# Altium footprint library Connector_IDC.PcbLib: 182 footprints (part 4 of 12)
Each footprint in its own frame and in the unit in brackets; x right, y up, seen from the top. Pads: shape width x height; smd on the part's side, far side on the other; paste and mask are expansions set on the pad; w line width, h text height; cw(c..) or ccw(c..) is an arc to the next point about the centre after c.
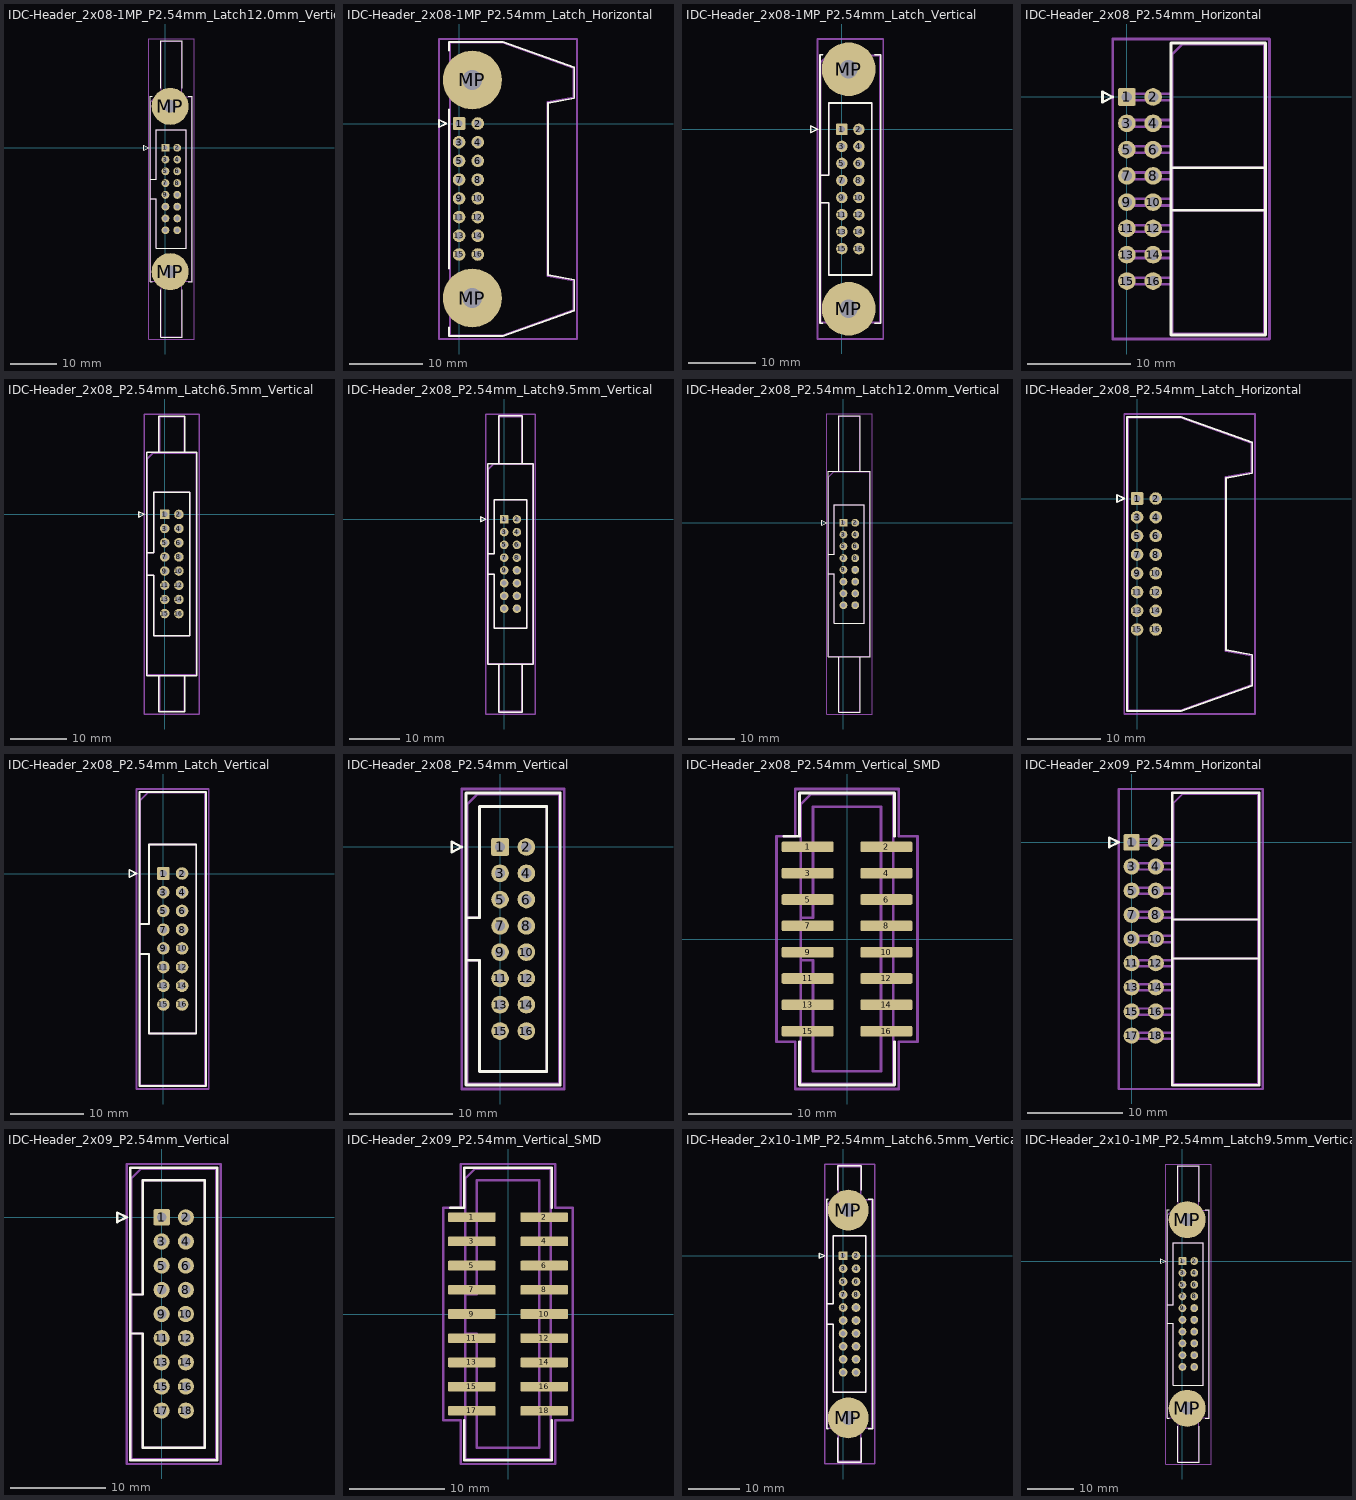
[diagram p3: the footprints below, top view; thin cyan lines are the x and y axes]

## IDC-Header_2x08-1MP_P2.54mm_Latch12.0mm_Vertical [mm]
pads (18):
  rrect15% 1.7x1.7 hole 1: 1(0,0)
  round 1.7 hole 1: 2(2.54,0) 3(0,-2.54) 4(2.54,-2.54) 5(0,-5.08) 6(2.54,-5.08) 7(0,-7.62) 8(2.54,-7.62) 9(0,-10.16) 10(2.54,-10.16) 11(0,-12.7) 12(2.54,-12.7) 13(0,-15.24) 14(2.54,-15.24) 15(0,-17.78) 16(2.54,-17.78)
  round 8 hole 2.69: MP(1.02,-26.72) MP(1.02,8.94)
F.SilkS:
  lines w0.254: -3.24,-10.94 -1.93,-10.94 -1.93,-21.7 4.47,-21.7 4.47,3.92 -1.93,3.92 -1.93,-6.84 -3.24,-6.84 ; -2.87,-28.86 -3.24,-28.86 -3.24,11.08 -2.87,11.08 ; -1.04,-30.61 -1.04,-40.86 3.58,-40.86 3.58,-30.61 ; -1.04,12.83 -1.04,23.08 3.58,23.08 3.58,12.83 ; 4.91,-28.86 5.78,-28.86 5.78,11.08 4.91,11.08 ; -4.63,-0.5 -3.63,0 -4.63,0.5 -4.63,-0.5
Top Assembly:
  lines w0.254: -3.13,-10.94 -1.93,-10.94 -1.93,-21.7 4.47,-21.7 4.47,3.92 -1.93,3.92 -1.93,-6.84 -3.13,-6.84 ; -0.93,-28.75 -0.93,-40.75 3.47,-40.75 3.47,-28.75 ; -0.93,10.97 -0.93,22.97 3.47,22.97 3.47,10.97 ; -3.13,-28.75 5.67,-28.75 5.67,10.97 -2.13,10.97 -3.13,9.97 -3.13,-28.75
  text "'.Designator'" at 2.11,-12.937 h1
Top Courtyard:
  lines w0.254: -3.63,-41.25 6.17,-41.25 6.17,23.47 -3.63,23.47 -3.63,-41.25
Top Designator:
  text ".Designator" at -6.848,-9.398 h1.52

## IDC-Header_2x08-1MP_P2.54mm_Latch_Horizontal [mm]
pads (18):
  rrect15% 1.7x1.7 hole 1: 1(0,0)
  round 1.7 hole 1: 2(2.54,0) 3(0,-2.54) 4(2.54,-2.54) 5(0,-5.08) 6(2.54,-5.08) 7(0,-7.62) 8(2.54,-7.62) 9(0,-10.16) 10(2.54,-10.16) 11(0,-12.7) 12(2.54,-12.7) 13(0,-15.24) 14(2.54,-15.24) 15(0,-17.78) 16(2.54,-17.78)
  round 8 hole 2.69: MP(1.8,-23.685) MP(1.8,5.905)
F.SilkS:
  lines w0.254: -1.35,-27.685 -1.35,-28.86 5.98,-28.86 15.64,-25.39 15.64,-21.2 12.08,-20.57 12.08,2.79 15.64,3.42 15.64,7.61 5.98,11.08 -1.35,11.08 -1.35,9.905 ; -1.35,-19.685 -1.35,1.905 ; -2.74,-0.5 -1.74,0 -2.74,0.5 -2.74,-0.5
Top Assembly:
  lines w0.254: -1.24,-28.75 5.87,-28.75 15.53,-25.28 15.53,-21.31 11.97,-20.68 11.97,2.9 15.53,3.53 15.53,7.5 5.87,10.97 -1.24,10.97 -1.24,-28.75
  text "'.Designator'" at 7.985,-12.937 h1
Top Courtyard:
  lines w0.254: -2.7,-29.25 16.03,-29.25 16.03,11.47 -2.7,11.47 -2.7,-29.25
Top Designator:
  text ".Designator" at -0.973,-9.398 h1.52

## IDC-Header_2x08-1MP_P2.54mm_Latch_Vertical [mm]
pads (18):
  rrect15% 1.7x1.7 hole 1: 1(0,0)
  round 1.7 hole 1: 2(2.54,0) 3(0,-2.54) 4(2.54,-2.54) 5(0,-5.08) 6(2.54,-5.08) 7(0,-7.62) 8(2.54,-7.62) 9(0,-10.16) 10(2.54,-10.16) 11(0,-12.7) 12(2.54,-12.7) 13(0,-15.24) 14(2.54,-15.24) 15(0,-17.78) 16(2.54,-17.78)
  round 8 hole 2.69: MP(1.02,-26.72) MP(1.02,8.94)
F.SilkS:
  lines w0.254: -3.24,-10.94 -1.93,-10.94 -1.93,-21.7 4.47,-21.7 4.47,3.92 -1.93,3.92 -1.93,-6.84 -3.24,-6.84 ; -2.87,-28.86 -3.24,-28.86 -3.24,11.08 -2.87,11.08 ; 4.91,-28.86 5.78,-28.86 5.78,11.08 4.91,11.08 ; -4.63,-0.5 -3.63,0 -4.63,0.5 -4.63,-0.5
Top Assembly:
  lines w0.254: -3.13,-10.94 -1.93,-10.94 -1.93,-21.7 4.47,-21.7 4.47,3.92 -1.93,3.92 -1.93,-6.84 -3.13,-6.84 ; -3.13,-28.75 5.67,-28.75 5.67,10.97 -2.13,10.97 -3.13,9.97 -3.13,-28.75
  text "'.Designator'" at 2.11,-12.937 h1
Top Courtyard:
  lines w0.254: -3.63,-31.22 6.17,-31.22 6.17,13.44 -3.63,13.44 -3.63,-31.22
Top Designator:
  text ".Designator" at -6.848,-9.398 h1.52

## IDC-Header_2x08_P2.54mm_Horizontal [mm]
pads (16):
  rrect15% 1.7x1.7 hole 1: 1(0,0)
  round 1.7 hole 1: 2(2.54,0) 3(0,-2.54) 4(2.54,-2.54) 5(0,-5.08) 6(2.54,-5.08) 7(0,-7.62) 8(2.54,-7.62) 9(0,-10.16) 10(2.54,-10.16) 11(0,-12.7) 12(2.54,-12.7) 13(0,-15.24) 14(2.54,-15.24) 15(0,-17.78) 16(2.54,-17.78)
F.SilkS:
  lines w0.254: 4.27,-10.94 13.39,-10.94 ; 4.27,-6.84 13.39,-6.84 ; -2.35,-0.5 -1.35,0 -2.35,0.5 -2.35,-0.5 ; 4.27,-22.99 13.39,-22.99 13.39,5.21 4.27,5.21 4.27,-22.99
Top Assembly:
  lines w0.254: 4.38,-18.1 -0.32,-18.1 -0.32,-17.46 4.38,-17.46 ; 4.38,-15.56 -0.32,-15.56 -0.32,-14.92 4.38,-14.92 ; 4.38,-13.02 -0.32,-13.02 -0.32,-12.38 4.38,-12.38 ; 4.38,-10.94 13.28,-10.94 ; 4.38,-10.48 -0.32,-10.48 -0.32,-9.84 4.38,-9.84 ; 4.38,-7.94 -0.32,-7.94 -0.32,-7.3 4.38,-7.3 ; 4.38,-6.84 13.28,-6.84 ; 4.38,-5.4 -0.32,-5.4 -0.32,-4.76 4.38,-4.76 ; 4.38,-2.86 -0.32,-2.86 -0.32,-2.22 4.38,-2.22 ; 4.38,-0.32 -0.32,-0.32 -0.32,0.32 4.38,0.32 ; 4.38,-22.88 13.28,-22.88 13.28,5.1 5.38,5.1 4.38,4.1 4.38,-22.88
  text "'.Designator'" at 9.67,-12.937 h1
Top Courtyard:
  lines w0.254: -1.35,-23.38 13.78,-23.38 13.78,5.6 -1.35,5.6 -1.35,-23.38
Top Designator:
  text ".Designator" at -1.903,-9.398 h1.52

## IDC-Header_2x08_P2.54mm_Latch6.5mm_Vertical [mm]
pads (16):
  rrect15% 1.7x1.7 hole 1: 1(0,0)
  round 1.7 hole 1: 2(2.54,0) 3(0,-2.54) 4(2.54,-2.54) 5(0,-5.08) 6(2.54,-5.08) 7(0,-7.62) 8(2.54,-7.62) 9(0,-10.16) 10(2.54,-10.16) 11(0,-12.7) 12(2.54,-12.7) 13(0,-15.24) 14(2.54,-15.24) 15(0,-17.78) 16(2.54,-17.78)
F.SilkS:
  lines w0.254: -3.24,-10.94 -1.93,-10.94 -1.93,-21.7 4.47,-21.7 4.47,3.92 -1.93,3.92 -1.93,-6.84 -3.24,-6.84 ; -1.04,-28.86 -1.04,-35.36 3.58,-35.36 3.58,-28.86 ; -1.04,11.08 -1.04,17.58 3.58,17.58 3.58,11.08 ; -4.63,-0.5 -3.63,0 -4.63,0.5 -4.63,-0.5 ; -3.24,-28.86 5.78,-28.86 5.78,11.08 -3.24,11.08 -3.24,-28.86
Top Assembly:
  lines w0.254: -3.13,-10.94 -1.93,-10.94 -1.93,-21.7 4.47,-21.7 4.47,3.92 -1.93,3.92 -1.93,-6.84 -3.13,-6.84 ; -0.93,-28.75 -0.93,-35.25 3.47,-35.25 3.47,-28.75 ; -0.93,10.97 -0.93,17.47 3.47,17.47 3.47,10.97 ; -3.13,-28.75 5.67,-28.75 5.67,10.97 -2.13,10.97 -3.13,9.97 -3.13,-28.75
  text "'.Designator'" at 2.11,-12.937 h1
Top Courtyard:
  lines w0.254: -3.63,-35.75 6.17,-35.75 6.17,17.97 -3.63,17.97 -3.63,-35.75
Top Designator:
  text ".Designator" at -6.848,-9.398 h1.52

## IDC-Header_2x08_P2.54mm_Latch9.5mm_Vertical [mm]
pads (16):
  rrect15% 1.7x1.7 hole 1: 1(0,0)
  round 1.7 hole 1: 2(2.54,0) 3(0,-2.54) 4(2.54,-2.54) 5(0,-5.08) 6(2.54,-5.08) 7(0,-7.62) 8(2.54,-7.62) 9(0,-10.16) 10(2.54,-10.16) 11(0,-12.7) 12(2.54,-12.7) 13(0,-15.24) 14(2.54,-15.24) 15(0,-17.78) 16(2.54,-17.78)
F.SilkS:
  lines w0.254: -3.24,-10.94 -1.93,-10.94 -1.93,-21.7 4.47,-21.7 4.47,3.92 -1.93,3.92 -1.93,-6.84 -3.24,-6.84 ; -1.04,-28.86 -1.04,-38.36 3.58,-38.36 3.58,-28.86 ; -1.04,11.08 -1.04,20.58 3.58,20.58 3.58,11.08 ; -4.63,-0.5 -3.63,0 -4.63,0.5 -4.63,-0.5 ; -3.24,-28.86 5.78,-28.86 5.78,11.08 -3.24,11.08 -3.24,-28.86
Top Assembly:
  lines w0.254: -3.13,-10.94 -1.93,-10.94 -1.93,-21.7 4.47,-21.7 4.47,3.92 -1.93,3.92 -1.93,-6.84 -3.13,-6.84 ; -0.93,-28.75 -0.93,-38.25 3.47,-38.25 3.47,-28.75 ; -0.93,10.97 -0.93,20.47 3.47,20.47 3.47,10.97 ; -3.13,-28.75 5.67,-28.75 5.67,10.97 -2.13,10.97 -3.13,9.97 -3.13,-28.75
  text "'.Designator'" at 2.11,-12.937 h1
Top Courtyard:
  lines w0.254: -3.63,-38.75 6.17,-38.75 6.17,20.97 -3.63,20.97 -3.63,-38.75
Top Designator:
  text ".Designator" at -6.848,-9.398 h1.52

## IDC-Header_2x08_P2.54mm_Latch12.0mm_Vertical [mm]
pads (16):
  rrect15% 1.7x1.7 hole 1: 1(0,0)
  round 1.7 hole 1: 2(2.54,0) 3(0,-2.54) 4(2.54,-2.54) 5(0,-5.08) 6(2.54,-5.08) 7(0,-7.62) 8(2.54,-7.62) 9(0,-10.16) 10(2.54,-10.16) 11(0,-12.7) 12(2.54,-12.7) 13(0,-15.24) 14(2.54,-15.24) 15(0,-17.78) 16(2.54,-17.78)
F.SilkS:
  lines w0.254: -3.24,-10.94 -1.93,-10.94 -1.93,-21.7 4.47,-21.7 4.47,3.92 -1.93,3.92 -1.93,-6.84 -3.24,-6.84 ; -1.04,-28.86 -1.04,-40.86 3.58,-40.86 3.58,-28.86 ; -1.04,11.08 -1.04,23.08 3.58,23.08 3.58,11.08 ; -4.63,-0.5 -3.63,0 -4.63,0.5 -4.63,-0.5 ; -3.24,-28.86 5.78,-28.86 5.78,11.08 -3.24,11.08 -3.24,-28.86
Top Assembly:
  lines w0.254: -3.13,-10.94 -1.93,-10.94 -1.93,-21.7 4.47,-21.7 4.47,3.92 -1.93,3.92 -1.93,-6.84 -3.13,-6.84 ; -0.93,-28.75 -0.93,-40.75 3.47,-40.75 3.47,-28.75 ; -0.93,10.97 -0.93,22.97 3.47,22.97 3.47,10.97 ; -3.13,-28.75 5.67,-28.75 5.67,10.97 -2.13,10.97 -3.13,9.97 -3.13,-28.75
  text "'.Designator'" at 2.11,-12.937 h1
Top Courtyard:
  lines w0.254: -3.63,-41.25 6.17,-41.25 6.17,23.47 -3.63,23.47 -3.63,-41.25
Top Designator:
  text ".Designator" at -6.848,-9.398 h1.52

## IDC-Header_2x08_P2.54mm_Latch_Horizontal [mm]
pads (16):
  rrect15% 1.7x1.7 hole 1: 1(0,0)
  round 1.7 hole 1: 2(2.54,0) 3(0,-2.54) 4(2.54,-2.54) 5(0,-5.08) 6(2.54,-5.08) 7(0,-7.62) 8(2.54,-7.62) 9(0,-10.16) 10(2.54,-10.16) 11(0,-12.7) 12(2.54,-12.7) 13(0,-15.24) 14(2.54,-15.24) 15(0,-17.78) 16(2.54,-17.78)
F.SilkS:
  lines w0.254: -2.74,-0.5 -1.74,0 -2.74,0.5 -2.74,-0.5 ; -1.35,-28.86 5.98,-28.86 15.64,-25.39 15.64,-21.2 12.08,-20.57 12.08,2.79 15.64,3.42 15.64,7.61 5.98,11.08 -1.35,11.08 -1.35,-28.86
Top Assembly:
  lines w0.254: -1.24,-28.75 5.87,-28.75 15.53,-25.28 15.53,-21.31 11.97,-20.68 11.97,2.9 15.53,3.53 15.53,7.5 5.87,10.97 -1.24,10.97 -1.24,-28.75
  text "'.Designator'" at 7.985,-12.937 h1
Top Courtyard:
  lines w0.254: -1.74,-29.25 16.03,-29.25 16.03,11.47 -1.74,11.47 -1.74,-29.25
Top Designator:
  text ".Designator" at -0.973,-9.398 h1.52

## IDC-Header_2x08_P2.54mm_Latch_Vertical [mm]
pads (16):
  rrect15% 1.7x1.7 hole 1: 1(0,0)
  round 1.7 hole 1: 2(2.54,0) 3(0,-2.54) 4(2.54,-2.54) 5(0,-5.08) 6(2.54,-5.08) 7(0,-7.62) 8(2.54,-7.62) 9(0,-10.16) 10(2.54,-10.16) 11(0,-12.7) 12(2.54,-12.7) 13(0,-15.24) 14(2.54,-15.24) 15(0,-17.78) 16(2.54,-17.78)
F.SilkS:
  lines w0.254: -3.24,-10.94 -1.93,-10.94 -1.93,-21.7 4.47,-21.7 4.47,3.92 -1.93,3.92 -1.93,-6.84 -3.24,-6.84 ; -4.63,-0.5 -3.63,0 -4.63,0.5 -4.63,-0.5 ; -3.24,-28.86 5.78,-28.86 5.78,11.08 -3.24,11.08 -3.24,-28.86
Top Assembly:
  lines w0.254: -3.13,-10.94 -1.93,-10.94 -1.93,-21.7 4.47,-21.7 4.47,3.92 -1.93,3.92 -1.93,-6.84 -3.13,-6.84 ; -3.13,-28.75 5.67,-28.75 5.67,10.97 -2.13,10.97 -3.13,9.97 -3.13,-28.75
  text "'.Designator'" at 2.11,-12.937 h1
Top Courtyard:
  lines w0.254: -3.63,-29.25 6.17,-29.25 6.17,11.47 -3.63,11.47 -3.63,-29.25
Top Designator:
  text ".Designator" at -6.848,-9.398 h1.52

## IDC-Header_2x08_P2.54mm_Vertical [mm]
pads (16):
  rrect15% 1.7x1.7 hole 1: 1(0,0)
  round 1.7 hole 1: 2(2.54,0) 3(0,-2.54) 4(2.54,-2.54) 5(0,-5.08) 6(2.54,-5.08) 7(0,-7.62) 8(2.54,-7.62) 9(0,-10.16) 10(2.54,-10.16) 11(0,-12.7) 12(2.54,-12.7) 13(0,-15.24) 14(2.54,-15.24) 15(0,-17.78) 16(2.54,-17.78)
F.SilkS:
  lines w0.254: -3.29,-10.94 -1.98,-10.94 -1.98,-21.69 4.52,-21.69 4.52,3.91 -1.98,3.91 -1.98,-6.84 -3.29,-6.84 ; -4.68,-0.5 -3.68,0 -4.68,0.5 -4.68,-0.5 ; -3.29,-22.99 5.83,-22.99 5.83,5.21 -3.29,5.21 -3.29,-22.99
Top Assembly:
  lines w0.254: -3.18,-10.94 -1.98,-10.94 -1.98,-21.69 4.52,-21.69 4.52,3.91 -1.98,3.91 -1.98,-6.84 -3.18,-6.84 ; -3.18,-22.88 5.72,-22.88 5.72,5.1 -2.18,5.1 -3.18,4.1 -3.18,-22.88
  text "'.Designator'" at 2.11,-12.937 h1
Top Courtyard:
  lines w0.254: -3.68,-23.38 6.22,-23.38 6.22,5.6 -3.68,5.6 -3.68,-23.38
Top Designator:
  text ".Designator" at -6.848,-9.398 h1.52

## IDC-Header_2x08_P2.54mm_Vertical_SMD [mm]
pads (16):
  rrect25% 5x1.02 smd: 1(-3.8,8.89) 2(3.8,8.89) 3(-3.8,6.35) 4(3.8,6.35) 5(-3.8,3.81) 6(3.8,3.81) 7(-3.8,1.27) 8(3.8,1.27) 9(-3.8,-1.27) 10(3.8,-1.27) 11(-3.8,-3.81) 12(3.8,-3.81) 13(-3.8,-6.35) 14(3.8,-6.35) 15(-3.8,-8.89) 16(3.8,-8.89)
F.SilkS:
  lines w0.254: -6.085,9.9 -4.585,9.9 -4.585,14.08 4.585,14.08 4.585,9.9 ; -4.585,-9.9 -4.585,-14.08 4.585,-14.08 4.585,-9.9
Top Assembly:
  lines w0.254: -4.475,-2.05 -3.275,-2.05 -3.275,-12.77 3.275,-12.77 3.275,12.77 -3.275,12.77 -3.275,2.05 -4.475,2.05 ; -4.475,-13.97 4.475,-13.97 4.475,13.97 -3.475,13.97 -4.475,12.97 -4.475,-13.97
  text "'.Designator'" at 0.84,-4.047 h1
Top Courtyard:
  lines w0.254: -6.8,-9.9 -4.98,-9.9 -4.98,-14.47 4.98,-14.47 4.98,-9.9 6.8,-9.9 6.8,9.9 4.98,9.9 4.98,14.47 -4.98,14.47 -4.98,9.9 -6.8,9.9 -6.8,-9.9
Top Designator:
  text ".Designator" at -7.618,-0.508 h1.52

## IDC-Header_2x09_P2.54mm_Horizontal [mm]
pads (18):
  rrect15% 1.7x1.7 hole 1: 1(0,0)
  round 1.7 hole 1: 2(2.54,0) 3(0,-2.54) 4(2.54,-2.54) 5(0,-5.08) 6(2.54,-5.08) 7(0,-7.62) 8(2.54,-7.62) 9(0,-10.16) 10(2.54,-10.16) 11(0,-12.7) 12(2.54,-12.7) 13(0,-15.24) 14(2.54,-15.24) 15(0,-17.78) 16(2.54,-17.78) 17(0,-20.32) 18(2.54,-20.32)
F.SilkS:
  lines w0.254: 4.27,-12.21 13.39,-12.21 ; 4.27,-8.11 13.39,-8.11 ; -2.35,-0.5 -1.35,0 -2.35,0.5 -2.35,-0.5 ; 4.27,-25.53 13.39,-25.53 13.39,5.21 4.27,5.21 4.27,-25.53
Top Assembly:
  lines w0.254: 4.38,-20.64 -0.32,-20.64 -0.32,-20 4.38,-20 ; 4.38,-18.1 -0.32,-18.1 -0.32,-17.46 4.38,-17.46 ; 4.38,-15.56 -0.32,-15.56 -0.32,-14.92 4.38,-14.92 ; 4.38,-13.02 -0.32,-13.02 -0.32,-12.38 4.38,-12.38 ; 4.38,-12.21 13.28,-12.21 ; 4.38,-10.48 -0.32,-10.48 -0.32,-9.84 4.38,-9.84 ; 4.38,-8.11 13.28,-8.11 ; 4.38,-7.94 -0.32,-7.94 -0.32,-7.3 4.38,-7.3 ; 4.38,-5.4 -0.32,-5.4 -0.32,-4.76 4.38,-4.76 ; 4.38,-2.86 -0.32,-2.86 -0.32,-2.22 4.38,-2.22 ; 4.38,-0.32 -0.32,-0.32 -0.32,0.32 4.38,0.32 ; 4.38,-25.42 13.28,-25.42 13.28,5.1 5.38,5.1 4.38,4.1 4.38,-25.42
  text "'.Designator'" at 9.67,-14.207 h1
Top Courtyard:
  lines w0.254: -1.35,-25.92 13.78,-25.92 13.78,5.6 -1.35,5.6 -1.35,-25.92
Top Designator:
  text ".Designator" at -1.903,-10.668 h1.52

## IDC-Header_2x09_P2.54mm_Vertical [mm]
pads (18):
  rrect15% 1.7x1.7 hole 1: 1(0,0)
  round 1.7 hole 1: 2(2.54,0) 3(0,-2.54) 4(2.54,-2.54) 5(0,-5.08) 6(2.54,-5.08) 7(0,-7.62) 8(2.54,-7.62) 9(0,-10.16) 10(2.54,-10.16) 11(0,-12.7) 12(2.54,-12.7) 13(0,-15.24) 14(2.54,-15.24) 15(0,-17.78) 16(2.54,-17.78) 17(0,-20.32) 18(2.54,-20.32)
F.SilkS:
  lines w0.254: -3.29,-12.21 -1.98,-12.21 -1.98,-24.23 4.52,-24.23 4.52,3.91 -1.98,3.91 -1.98,-8.11 -3.29,-8.11 ; -4.68,-0.5 -3.68,0 -4.68,0.5 -4.68,-0.5 ; -3.29,-25.53 5.83,-25.53 5.83,5.21 -3.29,5.21 -3.29,-25.53
Top Assembly:
  lines w0.254: -3.18,-12.21 -1.98,-12.21 -1.98,-24.23 4.52,-24.23 4.52,3.91 -1.98,3.91 -1.98,-8.11 -3.18,-8.11 ; -3.18,-25.42 5.72,-25.42 5.72,5.1 -2.18,5.1 -3.18,4.1 -3.18,-25.42
  text "'.Designator'" at 2.11,-14.207 h1
Top Courtyard:
  lines w0.254: -3.68,-25.92 6.22,-25.92 6.22,5.6 -3.68,5.6 -3.68,-25.92
Top Designator:
  text ".Designator" at -6.848,-10.668 h1.52

## IDC-Header_2x09_P2.54mm_Vertical_SMD [mm]
pads (18):
  rrect25% 5x1.02 smd: 1(-3.8,10.16) 2(3.8,10.16) 3(-3.8,7.62) 4(3.8,7.62) 5(-3.8,5.08) 6(3.8,5.08) 7(-3.8,2.54) 8(3.8,2.54) 9(-3.8,0) 10(3.8,0) 11(-3.8,-2.54) 12(3.8,-2.54) 13(-3.8,-5.08) 14(3.8,-5.08) 15(-3.8,-7.62) 16(3.8,-7.62) 17(-3.8,-10.16) 18(3.8,-10.16)
F.SilkS:
  lines w0.254: -6.085,11.17 -4.585,11.17 -4.585,15.35 4.585,15.35 4.585,11.17 ; -4.585,-11.17 -4.585,-15.35 4.585,-15.35 4.585,-11.17
Top Assembly:
  lines w0.254: -4.475,-2.05 -3.275,-2.05 -3.275,-14.04 3.275,-14.04 3.275,14.04 -3.275,14.04 -3.275,2.05 -4.475,2.05 ; -4.475,-15.24 4.475,-15.24 4.475,15.24 -3.475,15.24 -4.475,14.24 -4.475,-15.24
  text "'.Designator'" at 0.84,-4.047 h1
Top Courtyard:
  lines w0.254: -6.8,-11.17 -4.98,-11.17 -4.98,-15.74 4.98,-15.74 4.98,-11.17 6.8,-11.17 6.8,11.17 4.98,11.17 4.98,15.74 -4.98,15.74 -4.98,11.17 -6.8,11.17 -6.8,-11.17
Top Designator:
  text ".Designator" at -7.618,-0.508 h1.52

## IDC-Header_2x10-1MP_P2.54mm_Latch6.5mm_Vertical [mm]
pads (22):
  rrect15% 1.7x1.7 hole 1: 1(0,0)
  round 1.7 hole 1: 2(2.54,0) 3(0,-2.54) 4(2.54,-2.54) 5(0,-5.08) 6(2.54,-5.08) 7(0,-7.62) 8(2.54,-7.62) 9(0,-10.16) 10(2.54,-10.16) 11(0,-12.7) 12(2.54,-12.7) 13(0,-15.24) 14(2.54,-15.24) 15(0,-17.78) 16(2.54,-17.78) 17(0,-20.32) 18(2.54,-20.32) 19(0,-22.86) 20(2.54,-22.86)
  round 8 hole 2.69: MP(1.02,-31.8) MP(1.02,8.94)
F.SilkS:
  lines w0.254: -3.24,-13.48 -1.93,-13.48 -1.93,-26.78 4.47,-26.78 4.47,3.92 -1.93,3.92 -1.93,-9.38 -3.24,-9.38 ; -2.87,-33.94 -3.24,-33.94 -3.24,11.08 -2.87,11.08 ; -1.04,-35.69 -1.04,-40.44 3.58,-40.44 3.58,-35.69 ; -1.04,12.83 -1.04,17.58 3.58,17.58 3.58,12.83 ; 4.91,-33.94 5.78,-33.94 5.78,11.08 4.91,11.08 ; -4.63,-0.5 -3.63,0 -4.63,0.5 -4.63,-0.5
Top Assembly:
  lines w0.254: -3.13,-13.48 -1.93,-13.48 -1.93,-26.78 4.47,-26.78 4.47,3.92 -1.93,3.92 -1.93,-9.38 -3.13,-9.38 ; -0.93,-33.83 -0.93,-40.33 3.47,-40.33 3.47,-33.83 ; -0.93,10.97 -0.93,17.47 3.47,17.47 3.47,10.97 ; -3.13,-33.83 5.67,-33.83 5.67,10.97 -2.13,10.97 -3.13,9.97 -3.13,-33.83
  text "'.Designator'" at 2.11,-15.477 h1
Top Courtyard:
  lines w0.254: -3.63,-40.83 6.17,-40.83 6.17,17.97 -3.63,17.97 -3.63,-40.83
Top Designator:
  text ".Designator" at -6.848,-11.938 h1.52

## IDC-Header_2x10-1MP_P2.54mm_Latch9.5mm_Vertical [mm]
pads (22):
  rrect15% 1.7x1.7 hole 1: 1(0,0)
  round 1.7 hole 1: 2(2.54,0) 3(0,-2.54) 4(2.54,-2.54) 5(0,-5.08) 6(2.54,-5.08) 7(0,-7.62) 8(2.54,-7.62) 9(0,-10.16) 10(2.54,-10.16) 11(0,-12.7) 12(2.54,-12.7) 13(0,-15.24) 14(2.54,-15.24) 15(0,-17.78) 16(2.54,-17.78) 17(0,-20.32) 18(2.54,-20.32) 19(0,-22.86) 20(2.54,-22.86)
  round 8 hole 2.69: MP(1.02,-31.8) MP(1.02,8.94)
F.SilkS:
  lines w0.254: -3.24,-13.48 -1.93,-13.48 -1.93,-26.78 4.47,-26.78 4.47,3.92 -1.93,3.92 -1.93,-9.38 -3.24,-9.38 ; -2.87,-33.94 -3.24,-33.94 -3.24,11.08 -2.87,11.08 ; -1.04,-35.69 -1.04,-43.44 3.58,-43.44 3.58,-35.69 ; -1.04,12.83 -1.04,20.58 3.58,20.58 3.58,12.83 ; 4.91,-33.94 5.78,-33.94 5.78,11.08 4.91,11.08 ; -4.63,-0.5 -3.63,0 -4.63,0.5 -4.63,-0.5
Top Assembly:
  lines w0.254: -3.13,-13.48 -1.93,-13.48 -1.93,-26.78 4.47,-26.78 4.47,3.92 -1.93,3.92 -1.93,-9.38 -3.13,-9.38 ; -0.93,-33.83 -0.93,-43.33 3.47,-43.33 3.47,-33.83 ; -0.93,10.97 -0.93,20.47 3.47,20.47 3.47,10.97 ; -3.13,-33.83 5.67,-33.83 5.67,10.97 -2.13,10.97 -3.13,9.97 -3.13,-33.83
  text "'.Designator'" at 2.11,-15.477 h1
Top Courtyard:
  lines w0.254: -3.63,-43.83 6.17,-43.83 6.17,20.97 -3.63,20.97 -3.63,-43.83
Top Designator:
  text ".Designator" at -6.848,-11.938 h1.52